# EAGLE library part MP2348 (library ICs)
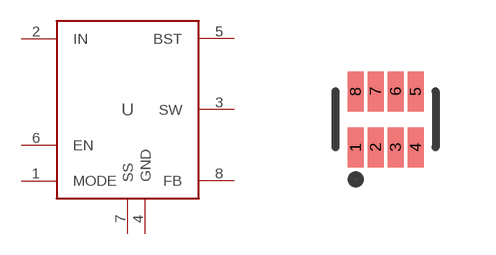
[diagram p40: symbol with the pads of SOT583; footprint SOT583]

Designator prefix U

## MP2348 (MFG: MPS; PN: MP2348)  [SOT583]
1  MODE
2  IN
3  SW
4  GND
5  BST
6  EN
7  SS
8  FB

## Footprint SOT583 (pad centres in mm)
smd 0.4 x 1: 1 -0.75,-0.7; 2 -0.25,-0.7; 3 0.25,-0.7; 4 0.75,-0.7; 5 0.75,0.7; 6 0.25,0.7; 7 -0.25,0.7; 8 -0.75,0.7